# Altium footprint library wius.PcbLib: 37 footprints (part 1 of 3)
Each footprint in its own frame and in the unit in brackets; x right, y up, seen from the top. Pads: shape width x height; smd on the part's side, far side on the other; paste and mask are expansions set on the pad; w line width, h text height; cw(c..) or ccw(c..) is an arc to the next point about the centre after c.
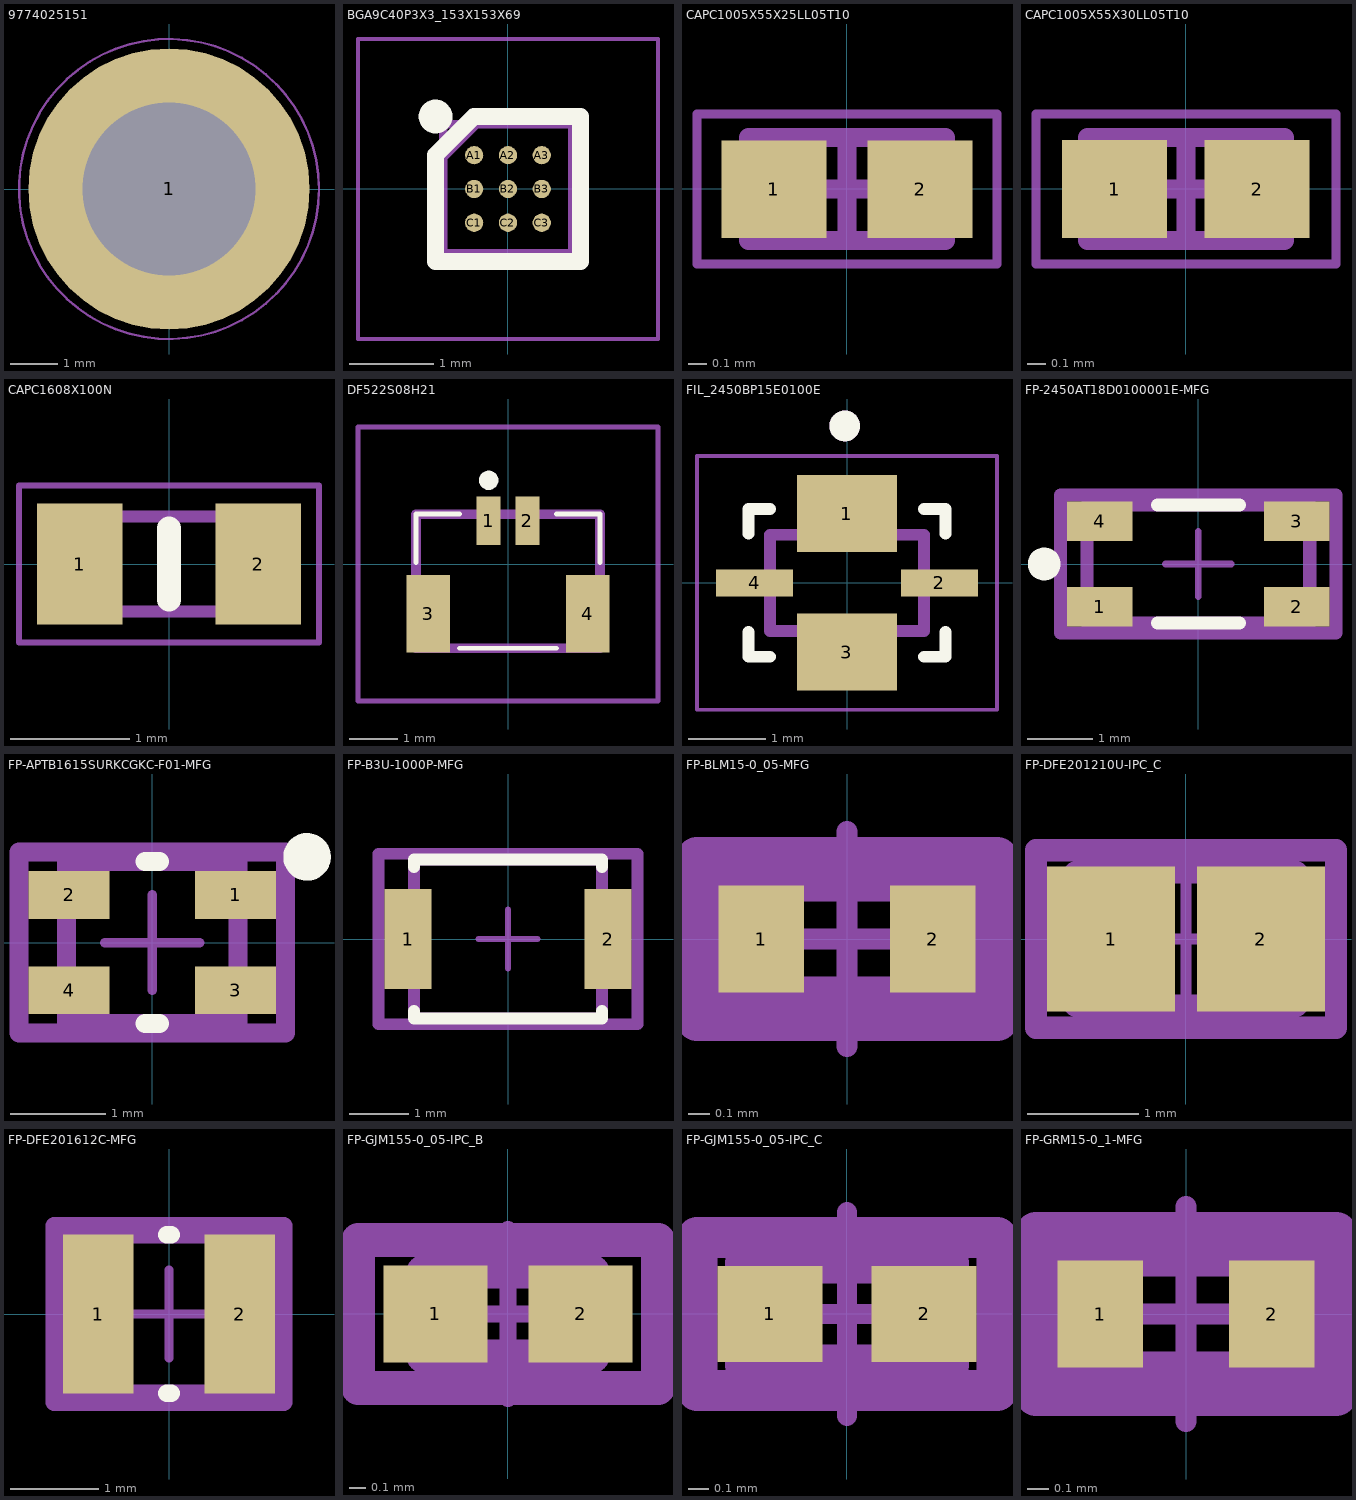
[diagram p0: the footprints below, top view; thin cyan lines are the x and y axes]

## 9774025151 [mm] "SMT Steel Spacer with internal Thread M2.5, height 2.5mm"
height 2.5
pads (1):
  round 6 / inner round 0 / far side round 0 hole 3.7 unplated: 1(0,0)
Top Paste:
  region: -2.902,0.325 -2.874,0.57 -2.738,1.044 -2.524,1.488 -2.239,1.89 -1.89,2.239 -1.488,2.524 -1.044,2.738 -0.57,2.874 -0.325,2.902 -0.325,1.872 -0.467,1.842 -0.743,1.749 -1.002,1.615 -1.237,1.443 -1.442,1.237 -1.614,1.002 -1.748,0.744 -1.842,0.468 -1.872,0.325
  region: -0.325,-2.902 -0.57,-2.874 -1.044,-2.738 -1.488,-2.524 -1.89,-2.239 -2.239,-1.89 -2.524,-1.488 -2.738,-1.044 -2.874,-0.57 -2.902,-0.325 -1.872,-0.325 -1.842,-0.467 -1.749,-0.743 -1.615,-1.002 -1.443,-1.237 -1.237,-1.442 -1.002,-1.614 -0.744,-1.748 -0.468,-1.842 -0.325,-1.872
  region: 2.902,-0.325 2.874,-0.57 2.738,-1.044 2.524,-1.488 2.239,-1.89 1.89,-2.239 1.488,-2.524 1.044,-2.738 0.57,-2.874 0.325,-2.902 0.325,-1.872 0.467,-1.842 0.743,-1.749 1.002,-1.615 1.237,-1.443 1.442,-1.237 1.614,-1.002 1.748,-0.744 1.842,-0.468 1.872,-0.325
  region: 0.325,2.902 0.57,2.874 1.044,2.738 1.488,2.524 1.89,2.239 2.239,1.89 2.524,1.488 2.738,1.044 2.874,0.57 2.902,0.325 1.872,0.325 1.842,0.467 1.749,0.743 1.615,1.002 1.443,1.237 1.237,1.442 1.002,1.614 0.744,1.748 0.468,1.842 0.325,1.872
Top Designator:
  text ".Designator" at -7.498,-0.5 h1.5
Top Component Outline:
  circle w0.1: c0,0 r2.55
Top 3D Body:
  circle w0.1: c0,0 r2.55
Top Courtyard:
  circle w0.05: c0,0 r3.2
  lines w0.05: -0.5,0 0.5,0 ; 0,-0.5 0,0.5
3D body "9774025151.stp": height 2.5, standoff -1.4, extent -2.55,-2.547 2.55,2.547

## BGA9C40P3X3_153X153X69 [mm]
height 2.5
pads (9):
  round 0.216 smd: A1(-0.4,0.4) A2(0,0.4) A3(0.4,0.4) B1(-0.4,0) B2(0,0) B3(0.4,0) C1(-0.4,-0.4) C2(0,-0.4) C3(0.4,-0.4)
Top Overlay:
  circle w0.2: c-0.858,0.858 r0.1
  lines w0.2: -0.858,-0.858 -0.858,0.4 -0.4,0.858 0.858,0.858 0.858,-0.858 -0.858,-0.858
Top 3D Body:
  lines w0.1: -0.764,0.376 -0.376,0.764 ; -0.764,-0.764 -0.764,0.764 0.764,0.764 0.764,-0.764 -0.764,-0.764
Top Courtyard:
  lines w0.05: -1.776,-1.777 -1.776,1.776 1.777,1.776 1.777,-1.777 -1.776,-1.777
3D body "MAX17262HEWL+.stp": height 0.69, standoff 0, extent -0.764,-0.764 0.764,0.764

## CAPC1005X55X25LL05T10 [mm] "Chip Capacitor, 2-Leads, Body 1.00x0.50mm, IPC High Density"
height 0.55
pads (2):
  rect 0.56x0.52 smd: 1(-0.39,0) 2(0.39,0)
Top 3D Body:
  lines w0.1: -0.525,-0.275 0.525,-0.275 0.525,0.275 -0.525,0.275 -0.525,-0.275
Top Courtyard:
  lines w0.05: -0.8,-0.4 0.8,-0.4 0.8,0.4 -0.8,0.4 -0.8,-0.4
  lines w0.1: -0.275,0 0.275,0 ; 0,-0.275 0,0.275
3D body: height 0.55, standoff 0, extent 0.275,-0.275 0.525,0.275
3D body: height 0.55, standoff 0, extent -0.525,-0.275 -0.275,0.275
3D body: height 0.55, standoff 0, extent -0.275,-0.275 0.275,0.275

## CAPC1005X55X30LL05T10 [mm] "Chip Capacitor, 2-Leads, Body 1.05x0.55mm, IPC High Density"
height 0.55
pads (2):
  rect 0.56x0.52 smd: 1(-0.38,0) 2(0.38,0)
Top 3D Body:
  lines w0.1: -0.525,-0.275 -0.525,0.275 0.525,0.275 0.525,-0.275 -0.525,-0.275
Top Courtyard:
  lines w0.05: -0.8,-0.4 -0.8,0.4 0.8,0.4 0.8,-0.4 -0.8,-0.4
  lines w0.1: -0.275,0 0.275,0 ; 0,-0.275 0,0.275
3D body "CAPC1005X06L.step": height 0.55, standoff 0, extent -0.525,-0.275 0.525,0.275

## CAPC1608X100N [mm]
height 2.5
pads (2):
  rect 0.72x1.02 smd: 1(-0.75,0) 2(0.75,0)
Top Overlay:
  lines w0.2: 0,-0.3 0,0.3
Top 3D Body:
  lines w0.1: -0.8,-0.4 0.8,-0.4 0.8,0.4 -0.8,0.4 -0.8,-0.4
Top Courtyard:
  lines w0.05: -1.26,-0.66 1.26,-0.66 1.26,0.66 -1.26,0.66 -1.26,-0.66
3D body "GMC10X7R106K10NT.stp": height 1, standoff 0, extent -0.8,-0.4 0.8,0.4

## DF522S08H21 [mm]
pads (4):
  rect 0.5x1 smd: 1(-0.4,0.89) 2(0.4,0.89)
  rect 0.9x1.6 smd: 3(-1.65,-1.03) 4(1.65,-1.03)
Top Overlay:
  lines w0.1: -1.9,0.03 -1.9,1.03 -1,1.03 ; -1,-1.74 1,-1.74 ; 1,1.03 1.9,1.03 1.9,0.03
  lines w0.2: -0.5,1.73 ccw(c-0.4,1.73) -0.3,1.73 ccw(c-0.4,1.73) -0.5,1.73
Top 3D Body:
  lines w0.2: -1.9,-1.74 -1.9,1.03 1.9,1.03 1.9,-1.74 -1.9,-1.74
Top Courtyard:
  lines w0.1: -3.1,-2.83 -3.1,2.83 3.1,2.83 3.1,-2.83 -3.1,-2.83
3D body "DF52-2S-0.8H_21_.stp": height 1.1, standoff 0, extent -2.01,-1.74 2.01,1.34

## FIL_2450BP15E0100E [mm]
pads (4):
  rect 1.3x1 smd: 1(0,0.9) 3(0,-0.9)
  rect 1x0.35 smd: 2(1.2,0) 4(-1.2,0)
Top Overlay:
  circle w0.2: c-0.03,2.04 r0.1
  lines w0.152: -1.28,-0.64 -1.28,-0.96 -1,-0.96 ; -1.28,0.64 -1.28,0.96 -1,0.96 ; 1,-0.96 1.28,-0.96 1.28,-0.64 ; 1,0.96 1.28,0.96 1.28,0.64
Top 3D Body:
  circle w0.2: c-0.03,2.04 r0.1
  lines w0.152: -1,-0.625 1,-0.625 1,0.625 -1,0.625 -1,-0.625
Top Courtyard:
  lines w0.05: -1.95,-1.65 1.95,-1.65 1.95,1.65 -1.95,1.65 -1.95,-1.65

## FP-2450AT18D0100001E-MFG [mm]
pads (4):
  rect 1x0.6 smd paste+0 mask+0: 1(-1.5,-0.65) 2(1.5,-0.65) 3(1.5,0.65) 4(-1.5,0.65)
Top Overlay:
  circle w0.25: c-2.35,0 r0.125
  lines w0.2: -0.625,-0.9 0.625,-0.9 ; -0.625,0.9 0.625,0.9
Top Assembly:
  lines w0.2: -2.1,-1.05 -2.1,1.05 2.1,1.05 2.1,-1.05 -2.1,-1.05
  text ".Designator" at 0,0.189 h1
Top 3D Body:
  lines w0.2: -1.7,-0.9 -1.7,0.9 1.7,0.9 1.7,-0.9 -1.7,-0.9
Top Courtyard:
  lines w0.2: -2.1,-1.05 -2.1,1.05 2.1,1.05 2.1,-1.05 -2.1,-1.05
Top Component Center:
  lines w0.1: -0.5,0 0.5,0 ; 0,-0.5 0,0.5
3D body "Ant_Johanson_2450AT18D0100001E_eec.STEP": height 0.25, standoff 0, extent -2.1,-1.05 2.1,1.05

## FP-APTB1615SURKCGKC-F01-MFG [mm]
pads (4):
  rect 0.85x0.5 smd paste+0 mask+0: 1(0.875,0.5) 2(-0.875,0.5) 3(0.875,-0.5) 4(-0.875,-0.5)
Top Overlay:
  circle w0.25: c1.625,0.9 r0.125
  lines w0.2: -0.075,-0.85 0.075,-0.85 ; -0.075,0.85 0.075,0.85
Top Assembly:
  lines w0.2: -1.4,-0.95 -1.4,0.95 1.4,0.95 1.4,-0.95 -1.4,-0.95
  text ".Designator" at 0,0.189 h1
Top 3D Body:
  lines w0.2: -0.9,-0.85 -0.9,0.85 0.9,0.85 0.9,-0.85 -0.9,-0.85
Top Courtyard:
  lines w0.2: -1.4,-0.95 -1.4,0.95 1.4,0.95 1.4,-0.95 -1.4,-0.95
Top Component Center:
  lines w0.1: -0.5,0 0.5,0 ; 0,-0.5 0,0.5
3D body "Diode_Kingbright_APTB1615SURKCGKC-F01_eec.STEP": height 0.25, standoff 0, extent -1.4,-0.95 1.4,0.95

## FP-B3U-1000P-MFG [mm]
pads (2):
  rect 0.8x1.7 smd paste+0 mask+0: 1(-1.7,0) 2(1.7,0)
Top Overlay:
  lines w0.2: -1.6,-1.225 -1.6,-1.35 1.6,-1.35 1.6,-1.225 ; -1.6,1.225 -1.6,1.35 1.6,1.35 1.6,1.225
Top Assembly:
  lines w0.2: -2.2,-1.45 2.2,-1.45 2.2,1.45 -2.2,1.45 -2.2,-1.45
  text ".Designator" at 0,0.189 h1
Top 3D Body:
  lines w0.2: -1.6,-1.35 1.6,-1.35 1.6,1.35 -1.6,1.35 -1.6,-1.35
Top Courtyard:
  lines w0.2: -2.2,-1.45 2.2,-1.45 2.2,1.45 -2.2,1.45 -2.2,-1.45
Top Component Center:
  lines w0.1: -0.5,0 0.5,0 ; 0,-0.5 0,0.5
3D body "Switch_Omron_B3U-1000P_eec.STEP": height 0.25, standoff 0, extent -2.2,-1.45 2.2,1.45

## FP-BLM15-0_05-MFG [mm]
height 2.5
pads (2):
  rect 0.4x0.5 smd paste+0 mask+0: 1(-0.4,0) 2(0.4,0)
Top Assembly:
  lines w0.2: -0.7,-0.375 -0.7,0.375 0.7,0.375 0.7,-0.375 -0.7,-0.375
  text ".Designator" at 0,0.189 h1
Top 3D Body:
  lines w0.2: -0.525,-0.275 -0.525,0.275 0.525,0.275 0.525,-0.275 -0.525,-0.275
Top Courtyard:
  lines w0.2: -0.7,-0.375 -0.7,0.375 0.7,0.375 0.7,-0.375 -0.7,-0.375
Top Component Center:
  lines w0.1: -0.5,0 0.5,0 ; 0,-0.5 0,0.5
3D body "FBead_Murata_BLM15PX471SN1B_eec.STEP": height 0.25, standoff 0, extent -0.7,-0.375 0.7,0.375

## FP-DFE201210U-IPC_C [mm]
pads (2):
  rect 1.154x1.306 smd paste+0 mask+0: 1(-0.676,0) 2(0.676,0)
Top Assembly:
  lines w0.2: -1.353,-0.8 1.353,-0.8 1.353,0.8 -1.353,0.8 -1.353,-0.8
  text ".Designator" at 0,0.189 h1
Top 3D Body:
  lines w0.2: -1,-0.6 1,-0.6 1,0.6 -1,0.6 -1,-0.6
Top Courtyard:
  lines w0.2: -1.353,-0.8 1.353,-0.8 1.353,0.8 -1.353,0.8 -1.353,-0.8
Top Component Center:
  lines w0.1: -0.5,0 0.5,0 ; 0,-0.5 0,0.5
3D body "Ind_Murata_DFE201210U-2R2M=P2_eec.STEP": height 0.25, standoff 0, extent -1.353,-0.8 1.353,0.8

## FP-DFE201612C-MFG [mm]
height 2.5
pads (2):
  rect 0.8x1.8 smd paste+0 mask+0: 1(-0.8,0) 2(0.8,0)
Top Overlay:
  lines w0.2: -0.025,-0.9 0.025,-0.9 ; -0.025,0.9 0.025,0.9
Top Assembly:
  lines w0.2: -1.3,-1 -1.3,1 1.3,1 1.3,-1 -1.3,-1
  text ".Designator" at 0,0.189 h1
Top 3D Body:
  lines w0.2: -1.1,-0.9 -1.1,0.9 1.1,0.9 1.1,-0.9 -1.1,-0.9
Top Courtyard:
  lines w0.2: -1.3,-1 -1.3,1 1.3,1 1.3,-1 -1.3,-1
Top Component Center:
  lines w0.1: -0.5,0 0.5,0 ; 0,-0.5 0,0.5
3D body "Ind_Murata_1286AS-H-1R0M=P2_eec.STEP": height 0.25, standoff 0, extent -1.3,-1 1.3,1

## FP-GJM155-0_05-IPC_B [mm]
pads (2):
  rect 0.615x0.572 smd paste+0 mask+0: 1(-0.429,0) 2(0.429,0)
Top Assembly:
  lines w0.2: -0.886,-0.436 0.886,-0.436 0.886,0.436 -0.886,0.436 -0.886,-0.436
  text ".Designator" at 0,0.189 h1
Top 3D Body:
  lines w0.2: -0.5,-0.25 0.5,-0.25 0.5,0.25 -0.5,0.25 -0.5,-0.25
Top Courtyard:
  lines w0.2: -0.886,-0.436 0.886,-0.436 0.886,0.436 -0.886,0.436 -0.886,-0.436
Top Component Center:
  lines w0.1: -0.5,0 0.5,0 ; 0,-0.5 0,0.5
3D body "Cap_Murata_GJM1551C1H7R0DB01D_eec.STEP": height 0.25, standoff 0, extent -0.886,-0.436 0.886,0.436

## FP-GJM155-0_05-IPC_C [mm]
pads (2):
  rect 0.515x0.472 smd paste+0 mask+0: 1(-0.379,0) 2(0.379,0)
Top Assembly:
  lines w0.2: -0.736,-0.375 0.736,-0.375 0.736,0.375 -0.736,0.375 -0.736,-0.375
  text ".Designator" at 0,0.189 h1
Top 3D Body:
  lines w0.2: -0.5,-0.25 0.5,-0.25 0.5,0.25 -0.5,0.25 -0.5,-0.25
Top Courtyard:
  lines w0.2: -0.736,-0.375 0.736,-0.375 0.736,0.375 -0.736,0.375 -0.736,-0.375
Top Component Center:
  lines w0.1: -0.5,0 0.5,0 ; 0,-0.5 0,0.5
3D body "Cap_Murata_GJM1551C1H7R0DB01D_eec.STEP": height 0.25, standoff 0, extent -0.736,-0.375 0.736,0.375

## FP-GRM15-0_1-MFG [mm]
height 2.5
pads (2):
  rect 0.4x0.5 smd paste+0 mask+0: 1(-0.4,0) 2(0.4,0)
Top Assembly:
  lines w0.2: -0.7,-0.375 -0.7,0.375 0.7,0.375 0.7,-0.375 -0.7,-0.375
  text ".Designator" at 0,0.189 h1
Top 3D Body:
  lines w0.2: -0.525,-0.275 -0.525,0.275 0.525,0.275 0.525,-0.275 -0.525,-0.275
Top Courtyard:
  lines w0.2: -0.7,-0.375 -0.7,0.375 0.7,0.375 0.7,-0.375 -0.7,-0.375
Top Component Center:
  lines w0.1: -0.5,0 0.5,0 ; 0,-0.5 0,0.5
3D body "Cap_Murata_Electronics_North_America_GRM155R61A474KE15D_eec.STEP": height 0.55, standoff 0, extent -0.5,-0.25 0.5,0.25